# Altium schematic symbol library DO3316.SchLib: 1 symbol
Pins are listed as number, name and electrical type; pins without a type are passive.

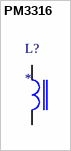
[diagram p0: symbol PM3316]

## PM3316
designator L?
PDF: http://www.bourns.com/data/global/pdfs/pm3316_series.pdf; ID: *; PRICE: *; BUY_LINK: *
footprint PM3316
pins: 1, 2